# Altium schematic symbol library pojacala.SchLib: 5 symbols
Pins are listed as number, name and electrical type; pins without a type are passive.

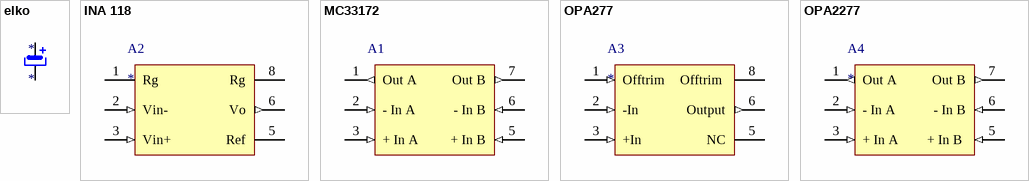
[diagram p0: symbols elko to OPA2277]

## elko
designator *
pins: 1, 2

## INA 118
designator A2
pins: 1 Rg, 2 Vin- (in), 3 Vin+ (in), 4 VCC- (power) hidden, 5 Ref, 6 Vo (out), 7 VCC+ (power) hidden, 8 Rg

## MC33172
designator A1  (value not drawn)
pins: 1 Out A (out), 2 - In A (in), 3 + In A (in), 4 VCC- (power) hidden, 5 + In B (in), 6 - In B (in), 7 Out B (out), 8 VCC+ (power) hidden

## OPA277
designator A3
pins: 1 Offtrim (in), 2 -In (in), 3 +In (in), 4 VCC- (power) hidden, 5 NC, 6 Output (out), 7 VCC+ (power) hidden, 8 Offtrim 

## OPA2277
designator A4
pins: 1 Out A (out), 2 - In A (in), 3 + In A (in), 4 VCC- (power) hidden, 5 + In B  (in), 6 - In B (in), 7 Out B (out), 8 VCC+ (power) hidden